# Altium schematic symbol library mixer.SchLib: 4 symbols
Pins are listed as number, name and electrical type; pins without a type are passive.

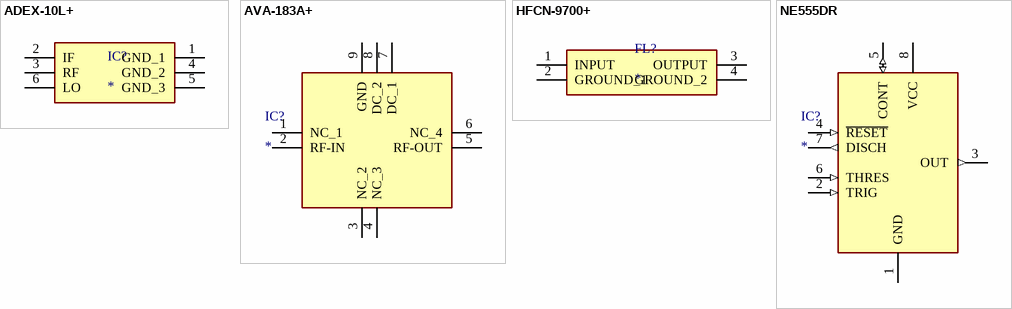
[diagram p0: symbols ADEX-10L+ to NE555DR]

## ADEX-10L+
designator IC?
Integrated Circuit; Manufacturer_Name: Mini-Circuits; Manufacturer_Part_Number: ADEX-10L+; Description: RF Mixer DBL BAL MIX / SURF MT / RoHS; Datasheet Link: https://www.minicircuits.com/pdfs/ADEX-10L+.pdf; Height: 2.84mm
footprint ADEX10L
pins: 1 GND_1, 2 IF, 3 RF, 4 GND_2, 5 GND_3, 6 LO

## AVA-183A+
designator IC?
Integrated Circuit; Manufacturer_Name: Mini-Circuits; Manufacturer_Part_Number: AVA-183A+; Datasheet Link: https://www.minicircuits.com/pdfs/AVA-183A+.pdf; Height: 0.894mm; Mouser Part Number: 139-AVA-183A; Mouser Price/Stock: https://www.mouser.co.uk/ProductDetail/Mini-Circuits/AVA-183A%2b/?qs=xZ%2FP%252Ba9zWqZk6FMH0o9REQ%3D%3D
footprint QFN66P300X300X89-9N
pins: 1 NC_1, 2 RF-IN, 3 NC_2, 4 NC_3, 5 RF-OUT, 6 NC_4, 7 DC_1, 8 DC_2, 9 GND

## HFCN-9700+
designator FL?
Filter; Manufacturer_Name: Mini-Circuits; Manufacturer_Part_Number: HFCN-9700+; Datasheet Link: https://www.minicircuits.com/pdfs/HFCN-9700+.pdf; Height: 1.0416mm; Mouser Part Number: 139-HFCN-9700; Mouser Price/Stock: https://www.mouser.co.uk/ProductDetail/Mini-Circuits/HFCN-9700%2b?qs=xZ%2FP%252Ba9zWqbwb9Om9u4eNw%3D%3D
footprint HFCN9700
pins: 1 INPUT, 2 GROUND_1, 3 OUTPUT, 4 GROUND_2

## NE555DR
designator IC?
Integrated Circuit; Manufacturer_Name: Texas Instruments; Manufacturer_Part_Number: NE555DR; Datasheet Link: http://www.ti.com/lit/ds/symlink/ne555.pdf; Height: 1.75mm; Mouser Part Number: 595-NE555DR; Mouser Price/Stock: https://www.mouser.com/Search/Refine.aspx?Keyword=595-NE555DR; RS Part Number: 1218414; RS Price/Stock: http://uk.rs-online.com/web/p/products/1218414
footprint SOIC127P600X175-8N
pins: 1 GND (power), 2 TRIG (in), 3 OUT (out), 4 ~{RESET} (in), 5 CONT (io), 6 THRES (in), 7 DISCH (out), 8 VCC (power)